# Altium schematic symbol library 20180125H1.SchLib: 10 symbols
Pins are listed as number, name and electrical type; pins without a type are passive.

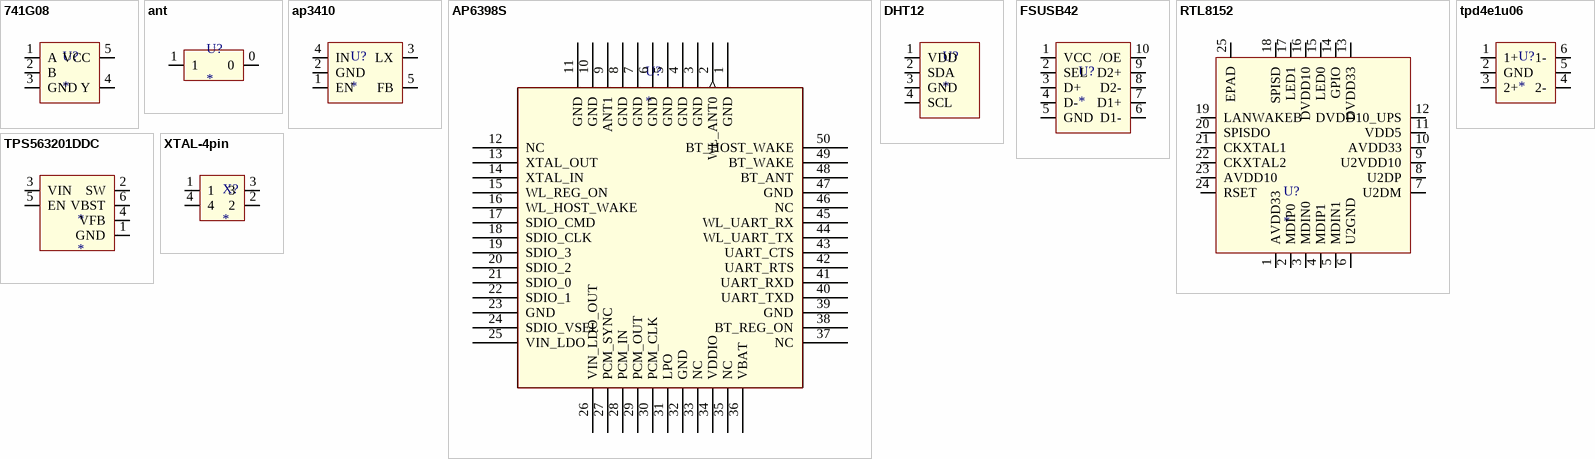
[diagram p0: symbols 741G08 to XTAL-4pin]

## 741G08
designator U?
pins: 1 A, 2 B, 3 GND, 4 Y, 5 VCC

## ant
designator U?
footprint AN9520
pins: 0, 1

## ap3410
designator U?
footprint LC-SOT-23-5
pins: 1 EN, 2 GND, 3 LX, 4 IN, 5 FB

## AP6398S
designator U?
footprint ap6398sr3 (Footprint not found)
pins: 1 GND (power), 2 WL_ANT0 (out), 3 GND (power), 4 GND (power), 5 GND (power), 6 GND (power), 7 GND (power), 8 GND (power), 9 ANT1 (power), 10 GND (power), 11 GND (power), 12 NC, 13 XTAL_OUT, 14 XTAL_IN, 15 WL_REG_ON, 16 WL_HOST_WAKE, 17 SDIO_CMD, 18 SDIO_CLK, 19 SDIO_3, 20 SDIO_2, 21 SDIO_0, 22 SDIO_1, 23 GND (power), 24 SDIO_VSEL, 25 VIN_LDO, 26 VIN_LDO_OUT, 27 PCM_SYNC, 28 PCM_IN, 29 PCM_OUT, 30 PCM_CLK, 31 LPO, 32 GND (power), 33 NC, 34 VDDIO, 35 NC, 36 VBAT, 37 NC, 38 BT_REG_ON, 39 GND (power), 40 UART_TXD, 41 UART_RXD, 42 UART_RTS, 43 UART_CTS, 44 WL_UART_TX, 45 WL_UART_RX, 46 NC, 47 GND, 48 BT_ANT, 49 BT_WAKE, 50 BT_HOST_WAKE

## DHT12
designator U?
footprint DHT12
pins: 1 VDD, 2 SDA, 3 GND, 4 SCL

## FSUSB42
designator U?
footprint LC-MSOP-10
pins: 1 VCC, 2 SEL, 3 D+, 4 D-, 5 GND, 6 D1-, 7 D1+, 8 D2-, 9 D2+, 10 /OE

## RTL8152
designator U?
footprint RTL8152B
pins: 1 AVDD33, 2 MDIP0, 3 MDIN0, 4 MDIP1, 5 MDIN1, 6 U2GND, 7 U2DM, 8 U2DP, 9 U2VDD10, 10 AVDD33, 11 VDD5, 12 DVDD10_UPS, 13 DVDD33, 14 GPIO, 15 LED0, 16 DVDD10, 17 LED1, 18 SPISD, 19 LANWAKEB, 20 SPISDO, 21 CKXTAL1, 22 CKXTAL2, 23 AVDD10, 24 RSET, 25 EPAD

## tpd4e1u06
designator U?
footprint tpd4e1u06
pins: 1 1+, 2 GND, 3 2+, 4 2-, 5, 6 1-

## TPS563201DDC
designator *
footprint SOT23-6 (SOT-23/SC-74A; 5 Leads; Body 3.1 x 3 mm, inc. leads (LxW max))
pins: 1 GND, 2 SW, 3 VIN, 4 VFB, 5 EN, 6 VBST

## XTAL-4pin
designator X?
footprint LC-SMD-3225_4P
pins: 1, 2, 3, 4